# Altium schematic symbol library UOMP_connectors.SchLib: 50 symbols
Pins are listed as number, name and electrical type; pins without a type are passive.

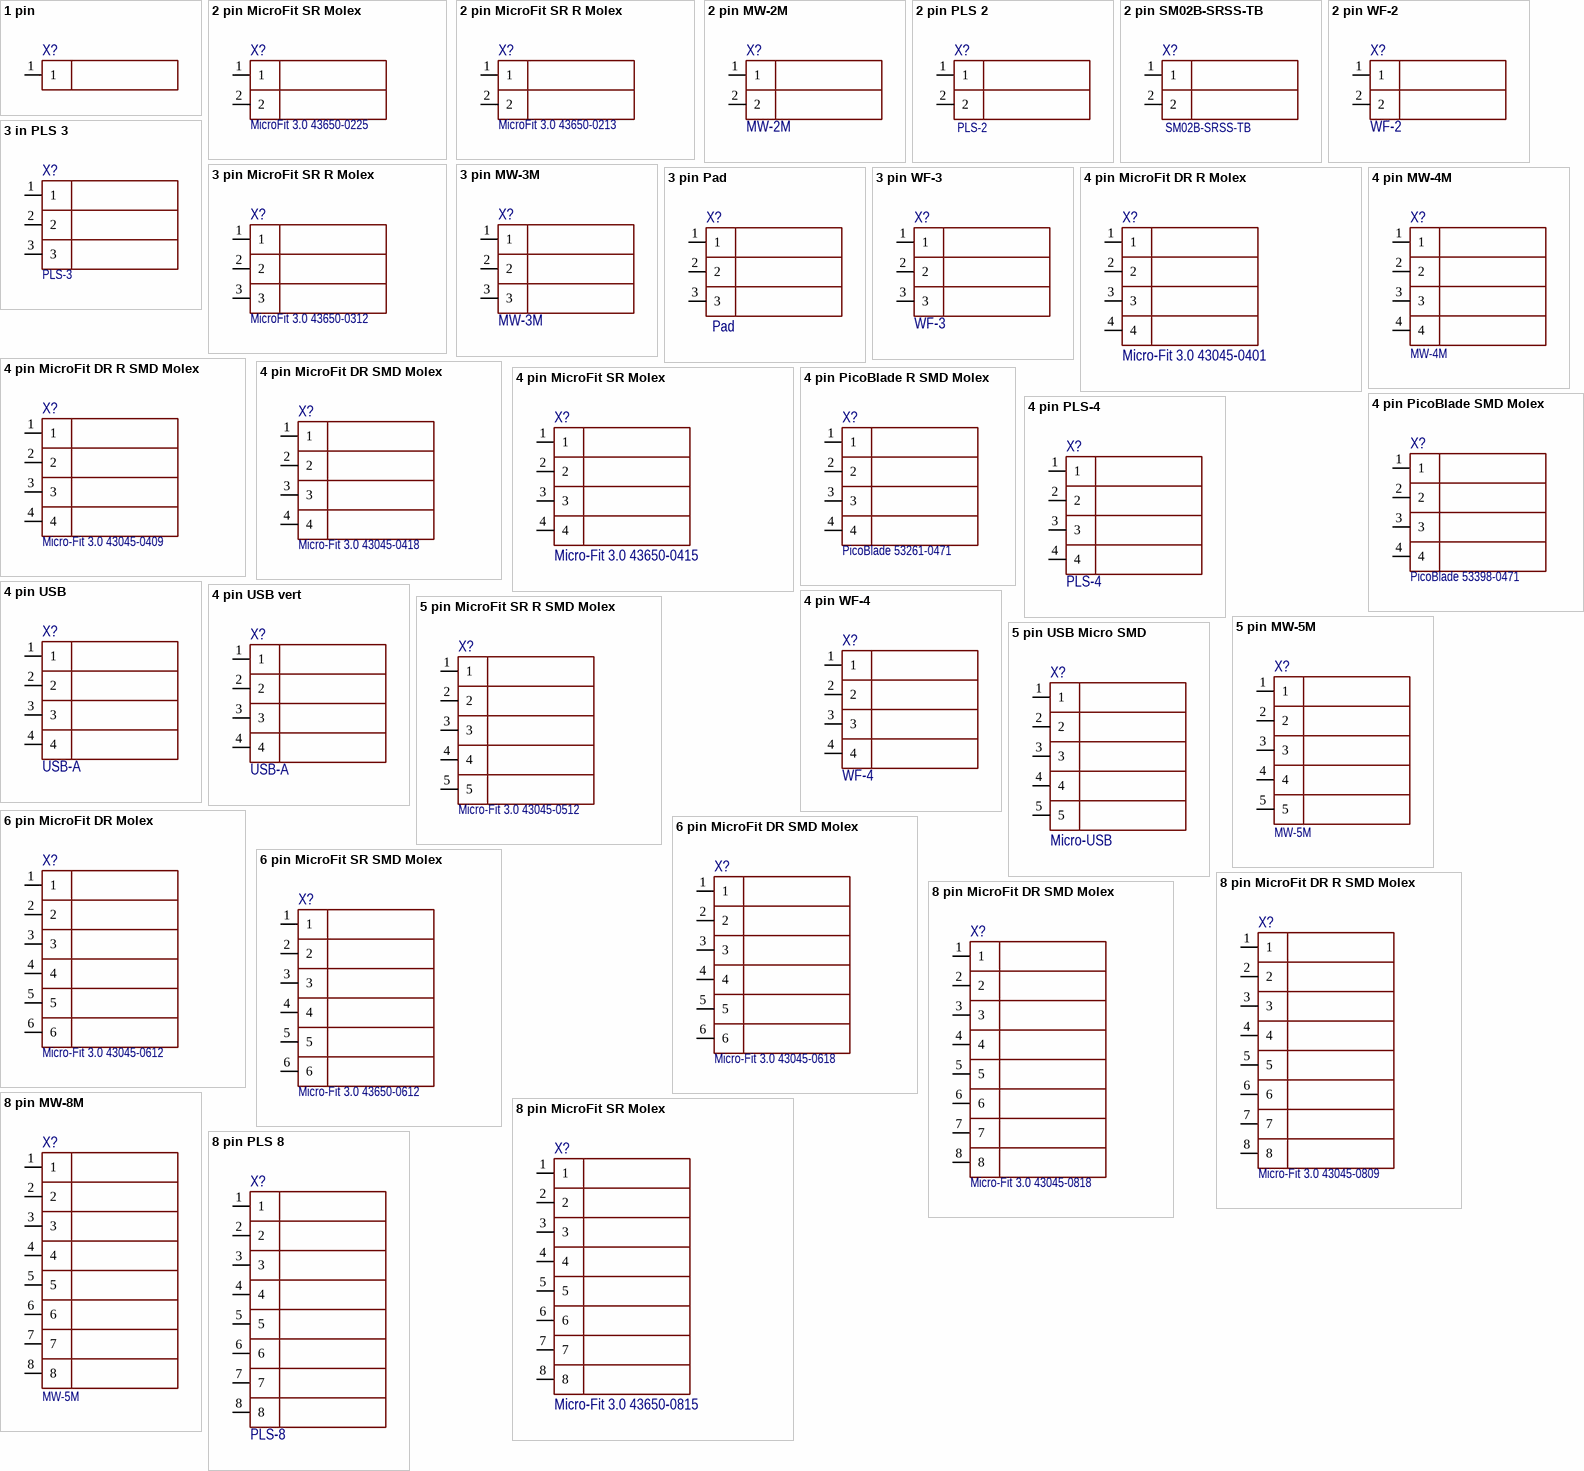
[diagram p0: symbols 1 pin to 8 pin PLS 8]

## 1 pin
designator X?  (value not drawn)
footprint CON: 1PIN
pins: 1

## 2 pin MicroFit SR Molex
designator X?, comment MicroFit 3.0 43650-0225
Name: Вилка Micro-Fit 3.0 43650-0225, Molex; Code: 6319211711
footprint CON: 2pin Molex MicroFit 3.0 43650-0225 (Vertical, Single Row)
pins: 1, 2

## 2 pin MicroFit SR R Molex
designator X?, comment MicroFit 3.0 43650-0213
Code: 6310013611; Name: Вилка Micro-Fit 3.0 43650-0225, Molex
footprint CON: 2pin Molex MicroFit 3.0 43650-0213 (Right Angle, Single Row)
pins: 1, 2

## 2 pin MW-2M
designator X?, comment MW-2M
Code: 6313953202; Name: Вилка MW-2M
footprint CON: 2PIN MW-2M
pins: 1, 2

## 2 pin PLS 2
designator X?, comment PLS-2
Code: 6313952321; Name: Вилка PLS-2
footprint CON: 2PIN PLS 2
pins: 1, 2

## 2 pin SM02B-SRSS-TB
designator X?, comment SM02B-SRSS-TB
Code: 6313952321; Name: Вилка PLS-2
footprint CON: 2PIN SM02B-SRSS-TB
pins: 1, 2

## 2 pin WF-2
designator X?, comment WF-2
Code: 6313952902; Name: Вилка WF-2
footprint CON: 2pin wf-2
pins: 1, 2

## 3 in PLS 3
designator X?, comment PLS-3
Code: 6313952321; Name: Вилка PLS-2
footprint CON: 3pin PLS-3
pins: 1, 2, 3

## 3 pin MicroFit SR R Molex
designator X?, comment MicroFit 3.0 43650-0312
Code: 6310013611; Name: Вилка Micro-Fit 3.0 43650-0312, Molex
footprint CON: 3pin Molex MicroFit 3.0 43650-0312
pins: 1, 2, 3

## 3 pin MW-3M
designator X?, comment MW-3M
Code: 6313953203; Name: Вилка MW-3M
footprint CON: 3PIN MW-3M
pins: 1, 2, 3

## 3 pin Pad
designator X?, comment Pad
footprint CON: 3pin pad
pins: 1, 2, 3

## 3 pin WF-3
designator X?, comment WF-3
Code: 6313932013; Name: Вилка WF-3
footprint CON: 3pin wf-3
pins: 1, 2, 3

## 4 pin MicroFit DR R Molex
designator X?, comment Micro-Fit 3.0 43045-0401
Code: *; Name: *
footprint CON: 4pin Molex MicroFit 3.0 43045-0401
pins: 1, 2, 3, 4

## 4 pin MicroFit DR R SMD Molex
designator X?, comment Micro-Fit 3.0 43045-0409
Code: 6319206391; Name: Вилка Micro-Fit 3.0 43045-0409, Molex
footprint CON: 4pin Molex MicroFit 3.0 43045-0409
pins: 1, 2, 3, 4

## 4 pin MicroFit DR SMD Molex
designator X?, comment Micro-Fit 3.0 43045-0418
Code: 6319206221; Name: Вилка Micro-Fit 3.0 43045-0418, Molex
footprint CON: 4pin Molex MicroFit 3.0 43045-0418
pins: 1, 2, 3, 4

## 4 pin MicroFit SR Molex
designator X?, comment Micro-Fit 3.0 43650-0415
Code: *; Name: *
footprint CON: 4pin Molex MicroFit 3.0 43650
pins: 1, 2, 3, 4

## 4 pin MW-4M
designator X?, comment MW-4M
Code: 6313953215; Name: Вилка MW-4M
footprint CON: 4PIN MW-4M
pins: 1, 2, 3, 4

## 4 pin PicoBlade R SMD Molex
designator X?, comment PicoBlade 53261-0471
Code: 6319199571; Name: Вилка 53261-0471, Molex
footprint CON: 4pin PICOBLADE 53261-0471
pins: 1, 2, 3, 4

## 4 pin PicoBlade SMD Molex
designator X?, comment PicoBlade 53398-0471
Code: Вилка 53398-0471, Molex; Name: 6319199601
footprint CON: 4pin PICOBLADE 53398-0471
pins: 1, 2, 3, 4

## 4 pin PLS-4
designator X?, comment PLS-4
Code: 6313932041; Name: Вилка WF-4
footprint CON: 4pin PLS-4
pins: 1, 2, 3, 4

## 4 pin USB
designator X?, comment USB-A
footprint CON: 4PIN USB B
pins: 1, 2, 3, 4

## 4 pin USB vert
designator X?, comment USB-A
footprint USB-A vertical
pins: 1, 2, 3, 4

## 4 pin WF-4
designator X?, comment WF-4
Code: 6313932041; Name: Вилка WF-4
footprint CON: 4pin wf-4
pins: 1, 2, 3, 4

## 5 pin MicroFit SR R SMD Molex
designator X?, comment Micro-Fit 3.0 43045-0512
Name: Вилка Micro-Fit 3.0 43650-0512, Molex; Code: 6310010801
footprint CON: 5pin Molex MicroFit 3.0 43650-0512 (Right Angle, Single Row)
pins: 1, 2, 3, 4, 5

## 5 pin MW-5M
designator X?, comment MW-5M
Code: 6313953205; Name: Вилка MW-5M
footprint CON: 5PIN MW-5M
pins: 1, 2, 3, 4, 5

## 5 pin USB Micro SMD
designator X?, comment Micro-USB
Code: 6319209171; Name: Розетка 10118194-0001LF, Amphenol
footprint CON: 5pin USB Micro
pins: 1, 2, 3, 4, 5

## 6 pin MicroFit DR Molex
designator X?, comment Micro-Fit 3.0 43045-0612
Вертикальный сквозной; Code: 6319206231; Name: Вилка Micro-Fit 3.0 43045-0618, Molex
footprint CON: 6 pin Molex Micro-Fit
pins: 1, 2, 3, 4, 5, 6

## 6 pin MicroFit DR SMD Molex
designator X?, comment Micro-Fit 3.0 43045-0618
Code: 6319206231; Name: Вилка Micro-Fit 3.0 43045-0618, Molex
footprint CON: 6pin Molex MicroFit 3.0 43045-0618
pins: 1, 2, 3, 4, 5, 6

## 6 pin MicroFit SR SMD Molex
designator X?, comment Micro-Fit 3.0 43650-0612
Code: 6310010811; Name: Вилка Micro-Fit 3.0 43650-0612, Molex
footprint CON: 6pin Molex MicroFit 3.0 43650-0612
pins: 1, 2, 3, 4, 5, 6

## 8 pin MicroFit DR R SMD Molex
designator X?, comment Micro-Fit 3.0 43045-0809
Code: 6319244781; Name: Micro-Fit 3.0 43045-0809
footprint CON: 8PIN Molex Microfit 43045-0809
pins: 1, 2, 3, 4, 5, 6, 7, 8

## 8 pin MicroFit DR SMD Molex
designator X?, comment Micro-Fit 3.0 43045-0818
Code: 6319202361; Name: Вилка Micro-Fit 3.0 43045-0818, Molex
footprint CON: 8pin Molex MicroFit 3.0 43045-0818
pins: 1, 2, 3, 4, 5, 6, 7, 8

## 8 pin MicroFit SR Molex
designator X?, comment Micro-Fit 3.0 43650-0815
Code: *; Name: *
footprint CON: 8pin Molex MicroFit 3.0 43650-0816
pins: 1, 2, 3, 4, 5, 6, 7, 8

## 8 pin MW-8M
designator X?, comment MW-5M
Code: 6310004831; Name: Вилка MW-8M
footprint CON: 8PIN MW-8M
pins: 1, 2, 3, 4, 5, 6, 7, 8

## 8 pin PLS 8
designator X?, comment PLS-8
footprint CON: 8PIN PLS-8
pins: 1, 2, 3, 4, 5, 6, 7, 8

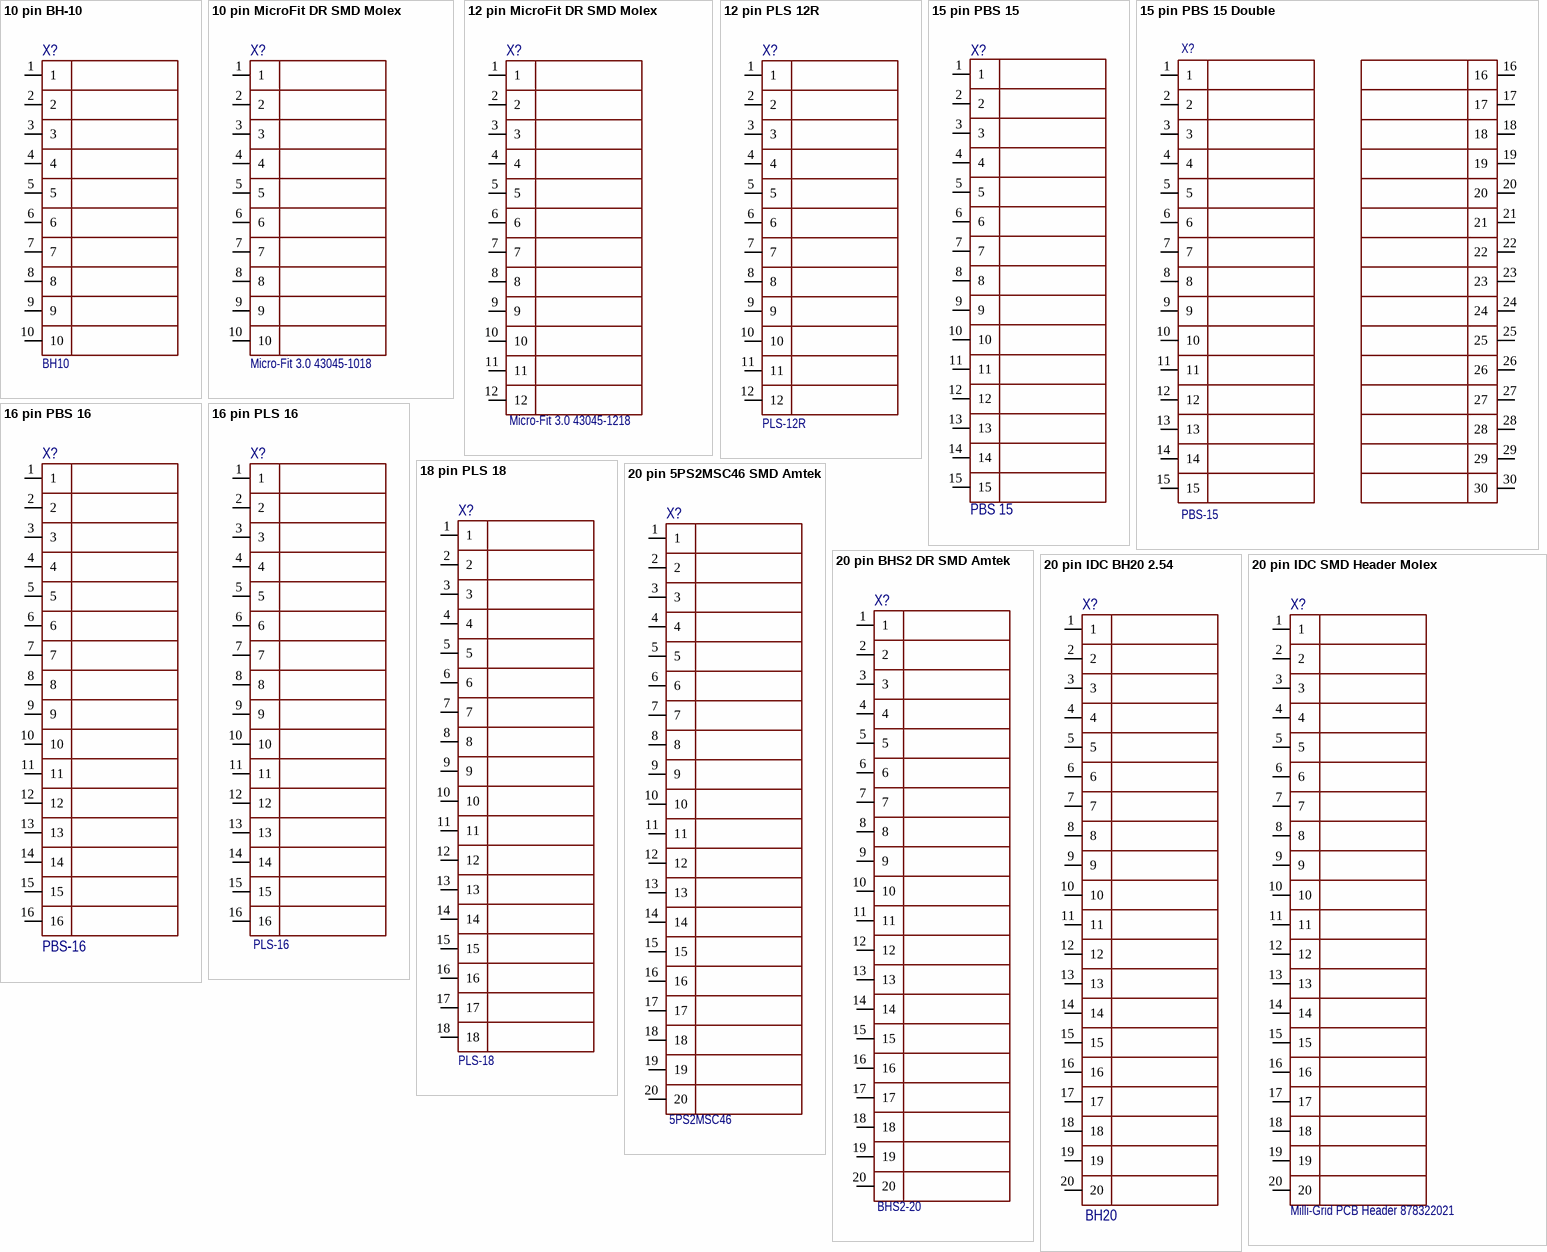
[diagram p1: symbols 10 pin BH-10 to 20 pin IDC SMD Header Molex]

## 10 pin BH-10
designator X?, comment BH10
Code: 6313922710; Name: Вилка BH-10
footprint CON: BH-10
pins: 1, 2, 3, 4, 5, 6, 7, 8, 9, 10

## 10 pin MicroFit DR SMD Molex
designator X?, comment Micro-Fit 3.0 43045-1018
Code: 6319225851; Name: Вилка 43045-1018, Molex
footprint CON: 10pin Molex MicroFit 3.0 43045-1018
pins: 1, 2, 3, 4, 5, 6, 7, 8, 9, 10

## 12 pin MicroFit DR SMD Molex
designator X?, comment Micro-Fit 3.0 43045-1218
Code: 6319206381; Name: Вилка Micro-Fit 3.0 43045-1218, Molex
footprint CON: 12pin Molex MicroFit 3.0 43045-1218
pins: 1, 2, 3, 4, 5, 6, 7, 8, 9, 10, 11, 12

## 12 pin PLS 12R
designator X?, comment PLS-12R
Code: 6310001121; Name: Вилка PLS-12R-2
footprint CON: 10 PLS-12R
pins: 1, 2, 3, 4, 5, 6, 7, 8, 9, 10, 11, 12

## 15 pin PBS 15
designator X?, comment PBS 15
pins: 1, 2, 3, 4, 5, 6, 7, 8, 9, 10, 11, 12, 13, 14, 15

## 15 pin PBS 15 Double
designator X?, comment PBS-15
footprint CON: 15PIN PBS-15 double
pins: 1, 2, 3, 4, 5, 6, 7, 8, 9, 10, 11, 12, 13, 14, 15, 16, 17, 18, 19, 20, 21, 22, 23, 24, 25, 26, 27, 28, 29, 30

## 16 pin PBS 16
designator X?, comment PBS-16
footprint CON: 16 PIN PBS-16
pins: 1, 2, 3, 4, 5, 6, 7, 8, 9, 10, 11, 12, 13, 14, 15, 16

## 16 pin PLS 16
designator X?, comment PLS-16
Code: 6313952391; Name: Вилка PLS-16
footprint CON: 16pin PLS-16
pins: 1, 2, 3, 4, 5, 6, 7, 8, 9, 10, 11, 12, 13, 14, 15, 16

## 18 pin PLS 18
designator X?, comment PLS-18
Code: 6313952381; Name: Вилка PLS-18 Импорт
footprint CON: 18pin PLS-18
pins: 1, 2, 3, 4, 5, 6, 7, 8, 9, 10, 11, 12, 13, 14, 15, 16, 17, 18

## 20 pin 5PS2MSC46 SMD Amtek
designator X?, comment 5PS2MSC46
Code: 6319221481; Name: Вилка BHS2-20, Amtek
footprint CON: 20 pin 5ps2msc46-220
pins: 1, 2, 3, 4, 5, 6, 7, 8, 9, 10, 11, 12, 13, 14, 15, 16, 17, 18, 19, 20

## 20 pin BHS2 DR SMD Amtek
designator X?, comment BHS2-20
Code: 6319221481; Name: Вилка BHS2-20, Amtek
footprint CON: 20 pin BHS2
pins: 1, 2, 3, 4, 5, 6, 7, 8, 9, 10, 11, 12, 13, 14, 15, 16, 17, 18, 19, 20

## 20 pin IDC BH20 2.54
designator X?, comment BH20
Code: 6313922720; Name: Вилка BH-20 Импорт
footprint CON: BH-20
pins: 1, 2, 3, 4, 5, 6, 7, 8, 9, 10, 11, 12, 13, 14, 15, 16, 17, 18, 19, 20

## 20 pin IDC SMD Header Molex
designator X?, comment Milli-Grid PCB Header 878322021
Code: 6319247171; Name: Вилка Milli-Grid 87832-2021, Molex
footprint CON: 20pin Molex 878322021
pins: 1, 2, 3, 4, 5, 6, 7, 8, 9, 10, 11, 12, 13, 14, 15, 16, 17, 18, 19, 20

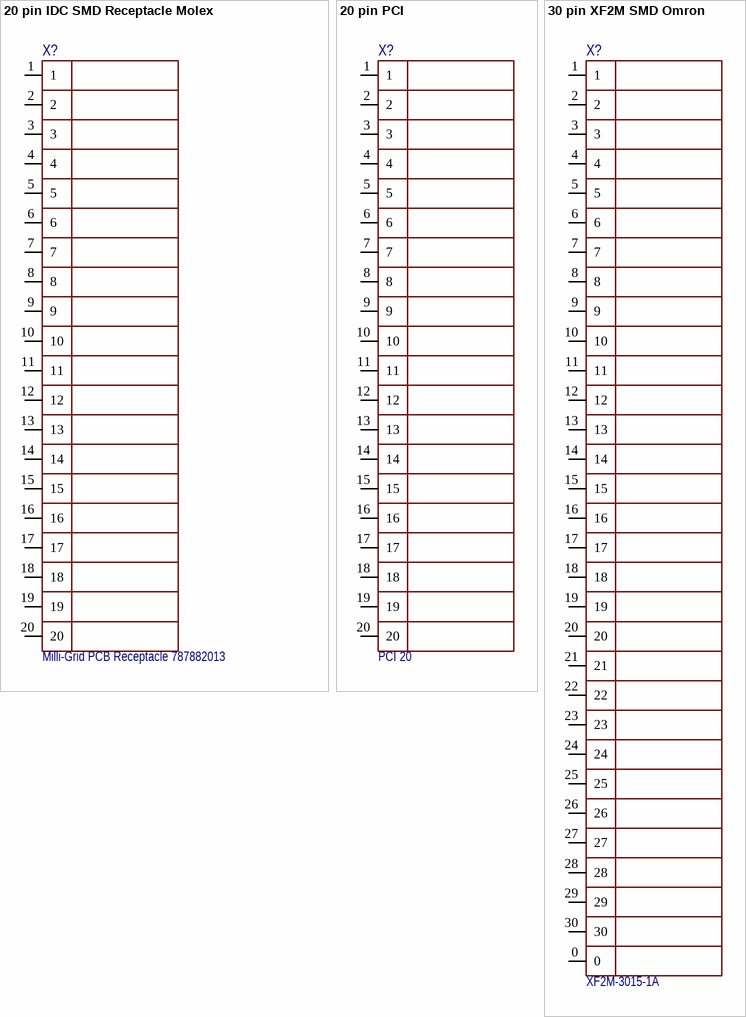
[diagram p2: symbols 20 pin IDC SMD Receptacle Molex to 30 pin XF2M SMD Omron]

## 20 pin IDC SMD Receptacle Molex
designator X?, comment Milli-Grid PCB Receptacle 787882013
Code: 6319247181; Name: Розетка Milli-Grid 78788-2014, Molex
footprint CON: 20pin Molex 787882013
pins: 1, 2, 3, 4, 5, 6, 7, 8, 9, 10, 11, 12, 13, 14, 15, 16, 17, 18, 19, 20

## 20 pin PCI
designator X?, comment PCI 20
footprint PCI 20PIN CONTACT
pins: 1, 2, 3, 4, 5, 6, 7, 8, 9, 10, 11, 12, 13, 14, 15, 16, 17, 18, 19, 20

## 30 pin XF2M SMD Omron
designator X?, comment XF2M-3015-1A
Name: Розетка XF2M-3015-1A; Code: 6319197781
footprint CON: 32pin Omron XF2M-3015-1A
pins: 0, 1, 2, 3, 4, 5, 6, 7, 8, 9, 10, 11, 12, 13, 14, 15, 16, 17, 18, 19, 20, 21, 22, 23, 24, 25, 26, 27, 28, 29, 30